# EAGLE library part V2_BOARD_40PIN (library Artemis v2 board)
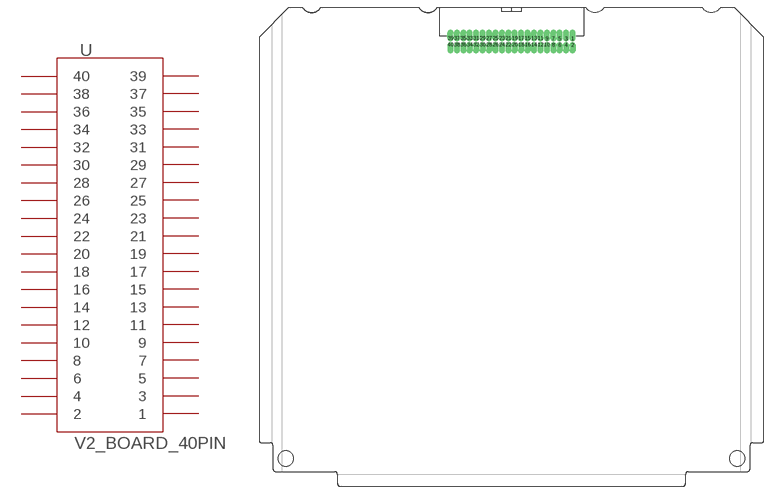
[diagram p1: symbol with the pads of BOARD_40PIN; footprint BOARD_40PIN]

Designator prefix -

## V2_BOARD_40PIN  [BOARD_40PIN]
1  1
2  2
3  3
4  4
5  5
6  6
7  7
8  8
9  9
10  10
11  11
12  12
13  13
14  14
15  15
16  16
17  17
18  18
19  19
20  20
21  21
22  22
23  23
24  24
25  25
26  26
27  27
28  28
29  29
30  30
31  31
32  32
33  33
34  34
35  35
36  36
37  37
38  38
39  39
40  40

## Footprint BOARD_40PIN (pad centres in mm)
drill 0.635 pad 0.965 offset: 1 61.965,88.535; 2 61.965,87.265; 3 60.695,88.535; 4 60.695,87.265; 5 59.425,88.535; 6 59.425,87.265; 7 58.155,88.535; 8 58.155,87.265; 9 56.885,88.535; 10 56.885,87.265; 11 55.615,88.535; 12 55.615,87.265; 13 54.345,88.535; 14 54.345,87.265; 15 53.075,88.535; 16 53.075,87.265; 17 51.805,88.535; 18 51.805,87.265; 19 50.535,88.535; 20 50.535,87.265; 21 49.265,88.535; 22 49.265,87.265; 23 47.995,88.535; 24 47.995,87.265; 25 46.725,88.535; 26 46.725,87.265; 27 45.455,88.535; 28 45.455,87.265; 29 44.185,88.535; 30 44.185,87.265; 31 42.915,88.535; 32 42.915,87.265; 33 41.645,88.535; 34 41.645,87.265; 35 40.375,88.535; 36 40.375,87.265; 37 39.105,88.535; 38 39.105,87.265; 39 37.835,88.535; 40 37.835,87.265
hole 3 at 5.3,5.5
hole 3 at 94.5,5.5